# Altium integrated library 3-1879460-1.IntLib: 1 symbol
Pins are listed as number, name and electrical type; pins without a type are passive.

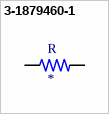
[diagram p0: symbol 3-1879460-1]

## 3-1879460-1
designator R
RES 0.18 OHM 1% 1/10W 0603; MF: TE Connectivity; Resistance: 18; Power_Rating: .1 W; MP: 3-1879460-1; Package: 0603; Value: *; SnapEDA_Link: https://www.snapeda.com/parts/3-1879460-1/TE%20Connectivity/view-part/2215357/?ref=snap; Availability: Unavailable; Price: None; TE_purchase_URL: https://www.te.com/usa-en/product-3-1879460-1.html?te_bu=Cor&te_type=disp&te_campaign=seda_glo_cor-seda-global-disp-prtnr-fy19-seda-model-bom-cta_sma-317_1&elqCampaignId=32493; Tolerance: 1%; EU_RoHS_Compliance: Compliant with Exemptions
footprint RESC1608X50N
pins: 1, 2